# EAGLE library part 8PIN_4X2 (library connector)
2.54mm pitch 4x2 pin Connector (Available as Headers or Pins)
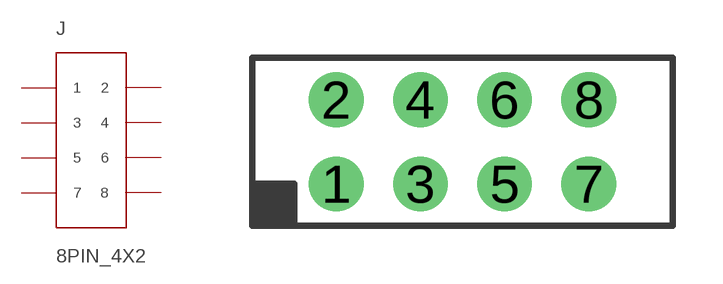
[diagram p1: symbol with the pads of 8PIN_4X2(2.54); footprint 8PIN_4X2(2.54)]

Designator prefix J

## 8PIN_4X2(2.54)  [8PIN_4X2(2.54)]
1  1
2  2
3  3
4  4
5  5
6  6
7  7
8  8

## Footprint 8PIN_4X2(2.54) (pad centres in mm)
drill 1.1: 1 -2.54,-1.27; 2 -2.54,1.27; 3 0,-1.27; 4 0,1.27; 5 2.54,-1.27; 6 2.54,1.27; 7 5.08,-1.27; 8 5.08,1.27